# EAGLE library part ADG704 (library sc_usercreated)
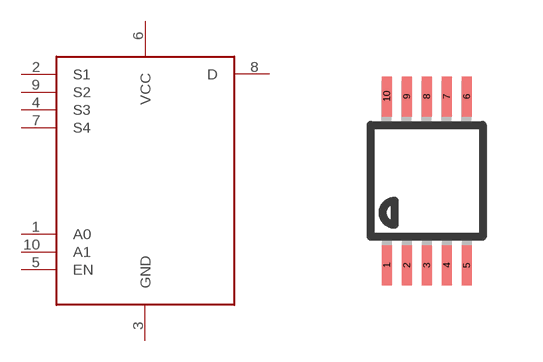
[diagram p1: symbol with the pads of 10MSOP; footprint 10MSOP]

Designator prefix -

## ADG704  [10MSOP]
1  A0
2  S1
3  GND
4  S3
5  EN
6  VCC
7  S4
8  D
9  S2
10  A1

## Footprint 10MSOP (pad centres in mm)
smd 0.25 x 1: 1 -1,-2.113; 2 -0.5,-2.113; 3 0,-2.113; 4 0.5,-2.113; 5 1,-2.113; 6 1,2.113; 7 0.5,2.113; 8 0,2.113; 9 -0.5,2.113; 10 -1,2.113